# Altium footprint library PcbLib1.PcbLib: 49 footprints (part 2 of 4)
Each footprint in its own frame and in the unit in brackets; x right, y up, seen from the top. Pads: shape width x height; smd on the part's side, far side on the other; paste and mask are expansions set on the pad; w line width, h text height; cw(c..) or ccw(c..) is an arc to the next point about the centre after c.
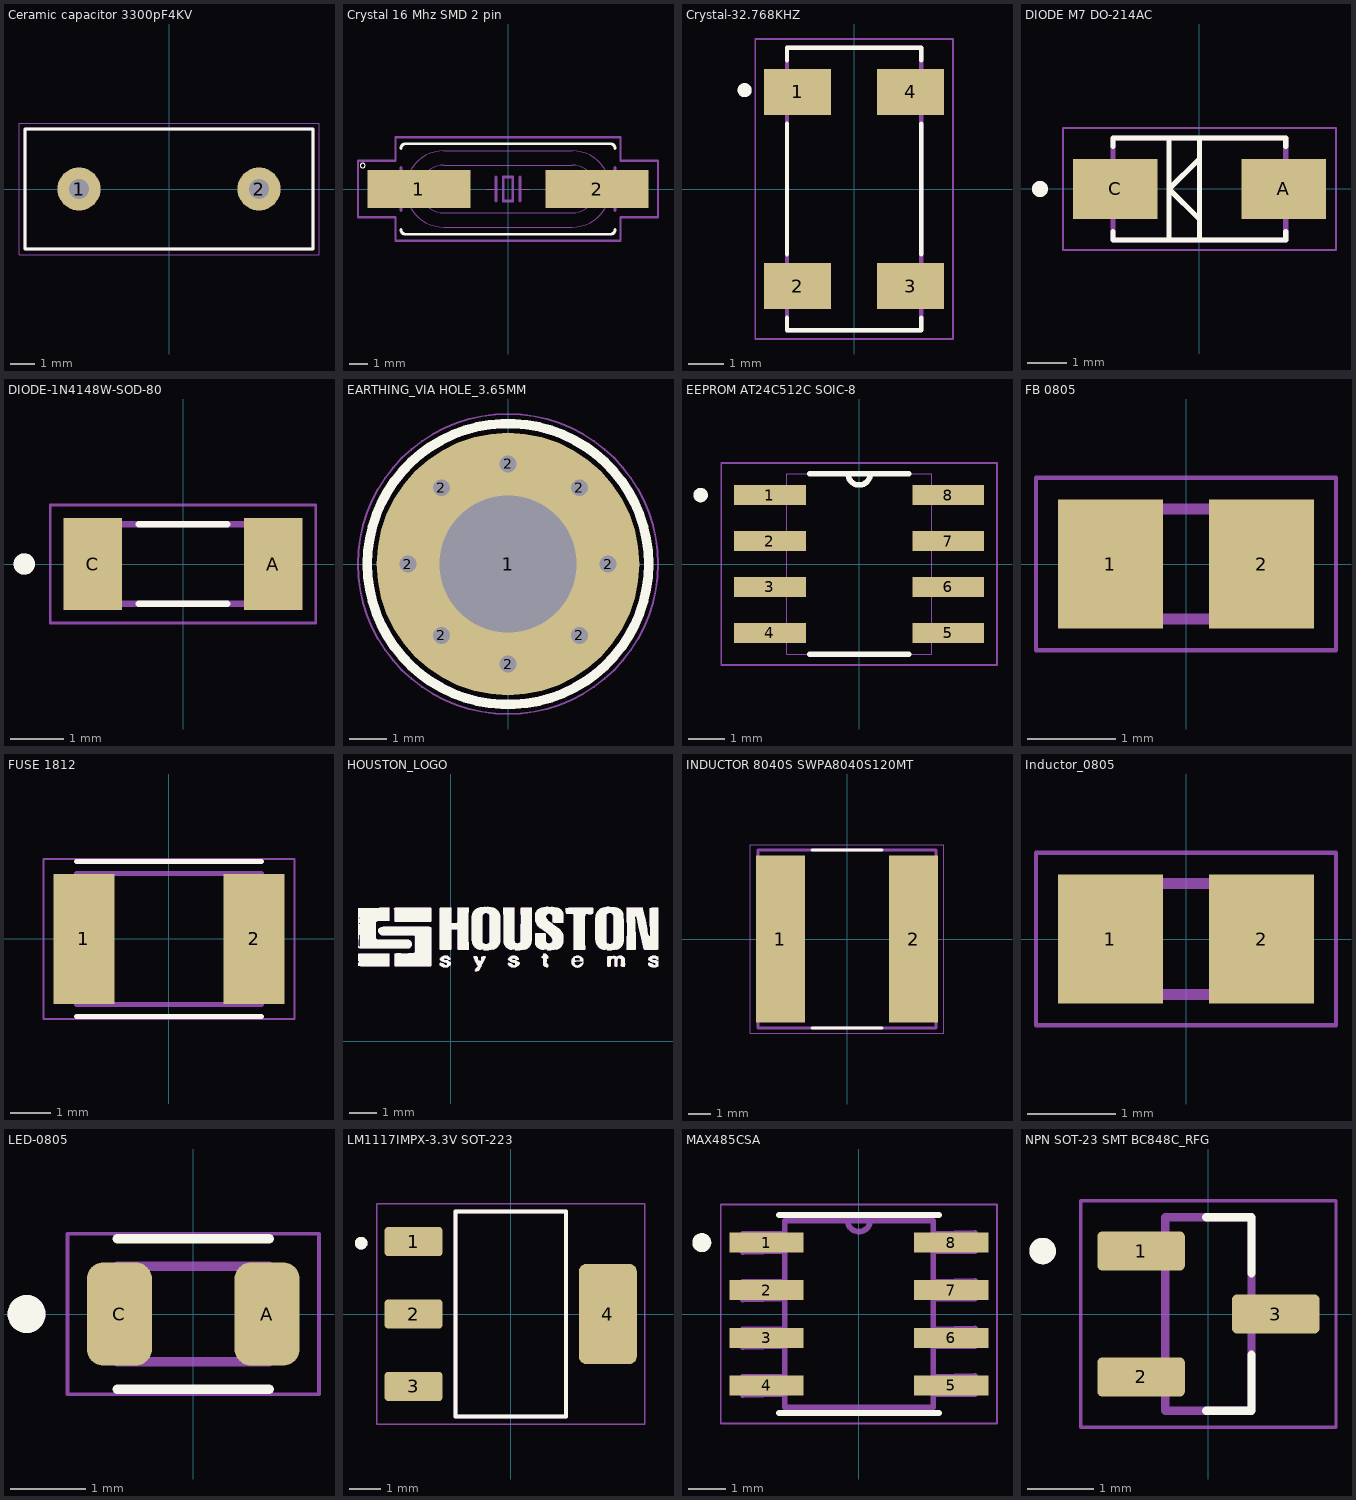
[diagram p1: the footprints below, top view; thin cyan lines are the x and y axes]

## Ceramic capacitor 3300pF4KV [mm] "Ceramic capacitor 3300pF4KV, Tension nominale 400Vac(r.m.s.), 4KV ESD, DE2E3SA332MA3BY02F"
pads (2):
  round 1.8 hole 0.85: 1(-3.75,0) 2(3.75,0)
Top Overlay:
  lines w0.127: -6,-2.5 -6,2.5 6,2.5 6,-2.5 -6,-2.5
Mechanical 13:
  lines w0.127: -6,-2.5 -6,2.5 6,2.5 6,-2.5 -6,-2.5
Mechanical 15:
  lines w0.05: -6.25,-2.75 -6.25,2.75 6.25,2.75 6.25,-2.75 -6.25,-2.75
3D body "step_temp.STEP": height 15, standoff -25, extent -6,-2.5 6,2.5

## Crystal 16 Mhz SMD 2 pin [mm] "16 MHz Â±30ppm Crystal 20pF 60 Ohms HC-49/US FOXSDLF/128-20 16 Mhz Crystal SMD –CSM-4ALX(28ALX) SMT12.5mmX4.85mmX4mm"
pads (2):
  rect 5.5x2 smd: 1(-4.75,0) 2(4.75,0)
Top Overlay:
  circle w0: c-7.75,1.25 r0.127
  lines w0.152: -5.715,-2.159 ccw(c-5.461,-2.159) -5.461,-2.413 5.461,-2.413 ccw(c5.461,-2.159) 5.715,-2.159 ; -5.715,2.159 cw(c-5.461,2.159) -5.461,2.413 5.461,2.413 cw(c5.461,2.159) 5.715,2.159
Mechanical 13:
  lines w0.051: -1.143,0 -0.635,0 ; 0.635,0 1.143,0 ; -5.114,-1.136 cw(c-3.429,0) -5.114,1.136 cw(c-3.429,0) -3.429,2.032 3.429,2.032 cw(c3.429,0) 5.114,1.136 cw(c3.429,0) 5.114,-1.136 cw(c3.429,0) 3.429,-2.032 -3.429,-2.032 cw(c-3.429,0) -5.114,-1.136 ; -3.986,-1.141 cw(c-3.429,0) -3.986,1.141 cw(c-3.429,0) -3.429,1.27 3.429,1.27 cw(c3.429,0) 3.986,1.141 cw(c3.429,0) 3.986,-1.141 cw(c3.429,0) 3.429,-1.27 -3.429,-1.27 cw(c-3.429,0) -3.986,-1.141
  lines w0.152: -5.715,-1.143 -5.715,1.143 ; -5.715,-0.381 -6.477,-0.381 -6.477,0.381 -5.715,0.381 ; -0.635,-0.635 -0.635,0 -0.635,0.635 ; 0.635,-0.635 0.635,0 0.635,0.635 ; 5.715,-1.143 5.715,-0.381 ; 5.715,1.143 5.715,0.381 ; 5.715,-0.381 6.477,-0.381 6.477,0.381 5.715,0.381 ; 5.715,-0.381 5.715,0.381 ; -0.254,-0.635 0.254,-0.635 0.254,0.635 -0.254,0.635 -0.254,-0.635
Mechanical 15:
  lines w0.127: -8,-1.5 -6,-1.5 -6,-2.75 6,-2.75 6,-1.5 8,-1.5 8,1.5 6,1.5 6,2.75 -6,2.75 -6,1.5 -8,1.5 -8,-1.5
3D body "step_temp.STEP": height 4.5, standoff 0, extent -6.75,-2.5 6.75,2.5

## Crystal-32.768KHZ [mm] "32.768 kHz Â±20ppm Crystal 6pF 50 kOhms 4-SOJ, 5.50mm pitch ABS25-32.768KHZ-6-T"
pads (4):
  rect 1.9x1.3 smd: 1(-1.6,2.75) 2(-1.6,-2.75) 3(1.6,-2.75) 4(1.6,2.75)
Top Overlay:
  circle w0.2: c-3.1,2.8 r0.1
  lines w0.127: -1.9,-3.65 -1.9,-4 1.9,-4 1.9,-3.65 ; -1.9,-1.85 -1.9,1.85 ; -1.9,3.65 -1.9,4 1.9,4 1.9,3.65 ; 1.9,-1.85 1.9,1.85
Mechanical 13:
  circle w0.2: c-3.1,2.8 r0.1
  lines w0.127: -1.9,-4 1.9,-4 1.9,4 -1.9,4 -1.9,-4
Mechanical 15:
  lines w0.05: -2.8,-4.25 2.8,-4.25 2.8,4.25 -2.8,4.25 -2.8,-4.25
3D body "step_temp.STEP": height 2.72, standoff 0.06, extent -2,-4 2,4

## DIODE M7 DO-214AC [mm] "M7 General Purpose SMD Rectifier Diode SMA (DO-214AC) 1A 1000V 1n4007  DIOM4325X250N"
height 2.5
pads (2):
  rect 2.12x1.5 smd: A(2.115,0) C(-2.115,0)
Top Overlay:
  circle w0.2: c-4,0 r0.1
  lines w0.127: -2.165,-1.07 -2.165,-1.28 2.165,-1.28 2.165,-1.07 ; -2.165,1.07 -2.165,1.28 2.165,1.28 2.165,1.07 ; -0.762,-1.27 -0.762,1.27 ; 0,-1.28 0,-0.762 ; 0,1.28 0,0.762 ; 0,-0.762 0,0.762 ; 0,-0.762 -0.762,0 0,0.762
Mechanical 13:
  circle w0.2: c-4,0 r0.1
  lines w0.127: -2.165,-1.28 2.165,-1.28 2.165,1.28 -2.165,1.28 -2.165,-1.28
Mechanical 15:
  lines w0.05: -3.425,-1.53 3.425,-1.53 3.425,1.53 -3.425,1.53 -3.425,-1.53
3D body "step_temp.STEP": height 2.5, standoff 0, extent -2.57,-1.28 2.57,1.28

## DIODE-1N4148W-SOD-80 [mm] "DIODE-1N4148W-SOD-80 is a general-purpose silicon diode LL4148_L1G"
pads (2):
  rect 1.11x1.73 smd: A(1.705,0) C(-1.705,0)
Top Overlay:
  circle w0.2: c-3,0 r0.1
  lines w0.127: -0.83,-0.75 0.83,-0.75 ; -0.83,0.75 0.83,0.75
Mechanical 13:
  circle w0.2: c-3,0 r0.1
  lines w0.127: -1.75,-0.75 1.75,-0.75 1.75,0.75 -1.75,0.75 -1.75,-0.75
Mechanical 15:
  lines w0.05: -2.51,-1.115 2.51,-1.115 2.51,1.115 -2.51,1.115 -2.51,-1.115
3D body "LL4148 L1G.STEP": height 1.57, standoff -0.03, extent -1.75,-0.762 1.75,0.826

## EARTHING_VIA HOLE_3.65MM [mm] "EARTHING VIA HOLE 3.65MM"
pads (9):
  round 7 hole 3.65: 1(0,0)
  round 0.5 hole 0.45: 2(-2.667,0) 2(-1.778,-1.905) 2(-1.778,2.032) 2(0,-2.667) 2(0,2.667) 2(1.905,-1.905) 2(1.905,2.032) 2(2.667,0)
Top Overlay:
  circle w0.254: c0,0 r3.75
Mechanical 15:
  circle w0.05: c0,0 r4

## EEPROM AT24C512C SOIC-8 [mil] "EEPROM Memory IC 512Kb (64K x 8) IÂ²C 400 kHz 900 ns SOIC-8 AT24C512C-SSHM-T"
pads (8):
  rect 78x22 smd: 1(-97,75) 2(-97,25) 3(-97,-25) 4(-97,-75) 5(97,-75) 6(97,-25) 7(97,25) 8(97,75)
Top Overlay:
  circle w7.87: c-172.48,75 r3.94
  lines w6: -54,-98 54,-98 ; -54,98 -12,98 ; 54,98 12,98 ; -12,98 ccw(c0,98) 12,98 ; -12,98 12,98
Mechanical 13:
  lines w0: -12,98 ccw(c0,98) 12,98 ; -12,98 12,98 ; -12,98 -79,98 -79,-98 79,-98 79,98 12,98 ; -122,-85 -122,-65 -79,-65 -79,-85 -122,-85 ; -122,-35 -122,-15 -79,-15 -79,-35 -122,-35 ; -122,15 -122,35 -79,35 -79,15 -122,15 ; -122,65 -122,85 -79,85 -79,65 -122,65 ; 79,-85 79,-65 122,-65 122,-85 79,-85 ; 79,-35 79,-15 122,-15 122,-35 79,-35 ; 79,15 79,35 122,35 122,15 79,15 ; 79,65 79,85 122,85 122,65 79,65
Mechanical 15:
  lines w1.97: -150,-110 -150,110 150,110 150,-110 -150,-110
3D body "step_temp.STEP": height 68.9, standoff 0, extent -118.11,-96.46 118.11,96.46

## FB 0805 [mm] "MH2029-101Y-Bourns Inc.-Ferrite Bead, 100 Ohms @ 100 MHz , Signal Line Ferrite Bead 0805 (2012 Metric) 2A 100mOhm"
pads (2):
  rect 1.2x1.47 smd: 1(-0.86,0) 2(0.86,0)
Mechanical 13:
  lines w0.127: -1,-0.625 -1,0.625 1,0.625 1,-0.625 -1,-0.625
Mechanical 15:
  lines w0.05: -1.708,-0.983 -1.708,0.983 1.708,0.983 1.708,-0.983 -1.708,-0.983

## FUSE 1812 [mm] "Polymeric PTC Resettable Fuse 60V 100 mA Ih Surface Mount 1812 (4532 Metric), Concave, MF-MSMF010-2"
pads (2):
  rect 1.5x3.2 smd: 1(-2.1,0) 2(2.1,0)
Top Overlay:
  lines w0.127: -2.275,-1.913 2.275,-1.913 ; -2.275,1.913 2.275,1.913
Mechanical 13:
  lines w0.127: -2.275,-1.62 -2.275,1.62 2.275,1.62 2.275,-1.62 -2.275,-1.62
Mechanical 15:
  lines w0.05: -3.1,-1.977 3.1,-1.977 3.1,1.977 -3.1,1.977 -3.1,-1.977
3D body "step_temp.STEP": height 0.85, standoff 0, extent -2.275,-1.62 2.275,1.62

## HOUSTON_LOGO [mm]
Top Overlay:
  drawing of 26 lines, arcs and shapes, not listed
Mechanical 13:
  drawing of 26 lines, arcs and shapes, not listed

## INDUCTOR 8040S SWPA8040S120MT [mm]
height 4.2
pads (2):
  rect 2.2x7.5 smd: 1(-3,0) 2(3,0)
Top Overlay:
  lines w0.127: -1.58,-4 1.58,-4 ; -1.58,4 1.58,4
Mechanical 13:
  lines w0.127: -4,-4 4,-4 4,4 -4,4 -4,-4
Mechanical 15:
  lines w0.05: -4.35,-4.25 4.35,-4.25 4.35,4.25 -4.35,4.25 -4.35,-4.25
3D body "step_temp.STEP": height 4, standoff 0, extent -4,-4 4,4

## Inductor_0805 [mm] "Inductor_0805 MLZ2012M1R5HT000"
pads (2):
  rect 1.2x1.47 smd: 1(-0.86,0) 2(0.86,0)
Mechanical 13:
  lines w0.127: -1,-0.63 1,-0.63 1,0.63 -1,0.63 -1,-0.63
Mechanical 15:
  lines w0.05: -1.708,-0.983 1.708,-0.983 1.708,0.983 -1.708,0.983 -1.708,-0.983

## LED-0805 [mm] "Red 640nm LED Indication - Discrete 1.85V 0805 (2012 Metric) SMT APT2012SRCPRV"
pads (2):
  rrect50% 0.86x1.36 smd: A(0.975,0) C(-0.975,0)
Top Overlay:
  circle w0.3: c-2.2,0 r0.1
  lines w0.127: -1,-0.995 1,-0.995 ; -1,0.995 1,0.995
Mechanical 13:
  circle w0.3: c-2.2,0 r0.1
  lines w0.127: -1,-0.63 1,-0.63 1,0.63 -1,0.63 -1,-0.63
Mechanical 15:
  lines w0.05: -1.66,-1.059 1.66,-1.059 1.66,1.059 -1.66,1.059 -1.66,-1.059
3D body "step_temp.STEP": height 0.75, standoff 0, extent -1,-0.625 1,0.625

## LM1117IMPX-3.3V SOT-223 [mm] "LM1117IMPX-3.3V 800-mA 15-V linear voltage regulator SOT230P700X180-4N"
height 1.8
pads (4):
  rrect25% 1.84x0.93 smd: 1(-3.085,2.3) 2(-3.085,0) 3(-3.085,-2.3)
  rrect25% 1.84x3.19 smd: 4(3.085,0)
Top Overlay:
  circle w0.2: c-4.75,2.25 r0.1
  lines w0.127: -1.75,-3.25 1.75,-3.25 1.75,3.25 -1.75,3.25 -1.75,-3.25
Mechanical 13:
  circle w0.2: c-4.75,2.25 r0.1
  lines w0.127: -1.75,-3.25 1.75,-3.25 1.75,3.25 -1.75,3.25 -1.75,-3.25
Mechanical 15:
  lines w0.05: -4.255,-3.5 -4.255,3.5 4.255,3.5 4.255,-3.5 -4.255,-3.5
3D body "step_temp.STEP": height 1.8, standoff 0, extent -3.499,-3.25 3.499,3.25

## MAX485CSA [mil] "MAX485CSA-RS-485/RS-422 Transceivers, SOIC-8"
pads (8):
  rect 78x21 smd: 1(-97,75) 2(-97,25) 3(-97,-25) 4(-97,-75) 5(97,-75) 6(97,-25) 7(97,25) 8(97,75)
Top Overlay:
  circle w10: c-165,75 r5
  lines w6: -84,-104 84,-104 ; -84,104 84,104
Mechanical 13:
  lines w6: -12,98.08 ccw(c0,98.5) 12,98.92 ; -122,-85 -78,-84 -78,-66 -122,-66 -122,-85 ; -122,-35 -78,-34 -78,-16 -122,-16 -122,-35 ; -122,15 -78,16 -78,34 -122,34 -122,15 ; -122,65 -78,66 -78,84 -122,84 -122,65 ; -78,-98 -78,98 -12,98 78,98 78,-98 -78,-98 ; 78,-84 122,-84 122,-65 78,-66 78,-84 ; 78,-34 122,-34 122,-15 78,-16 78,-34 ; 78,16 122,16 122,35 78,34 78,16 ; 78,66 122,66 122,85 78,84 78,66
Mechanical 15:
  lines w1.97: -145,-115 145,-115 145,115 -145,115 -145,-115
3D body "step_temp.STEP": height 68.9, standoff 0, extent -118.11,-96.46 118.11,96.46

## NPN SOT-23 SMT BC848C_RFG [mm] "NPN SOT-23 SMT BC848C_RFG SOT95P237X112-3N"
height 1.12
pads (3):
  rrect25% 1.32x0.59 smd: 1(-1.015,0.95) 2(-1.015,-0.95) 3(1.015,0)
Top Overlay:
  circle w0.2: c-2.5,0.95 r0.1
  lines w0.127: -0.035,-1.46 0.65,-1.46 0.65,-0.615 ; -0.035,1.46 0.65,1.46 0.65,0.615
Mechanical 13:
  circle w0.2: c-2.5,0.95 r0.1
  lines w0.127: -0.65,-1.46 0.65,-1.46 0.65,1.46 -0.65,1.46 -0.65,-1.46
Mechanical 15:
  lines w0.05: -1.925,-1.71 1.925,-1.71 1.925,1.71 -1.925,1.71 -1.925,-1.71
3D body "step_temp.STEP": height 1.12, standoff 0, extent -1.188,-1.46 1.188,1.46